# EAGLE library part SSM2167 (library analog-devices-3)
Low Voltage Microphone Preamplifier with Variable Compression and Noise Gating Source: http://www.analog.com .. SSM2167.pdf
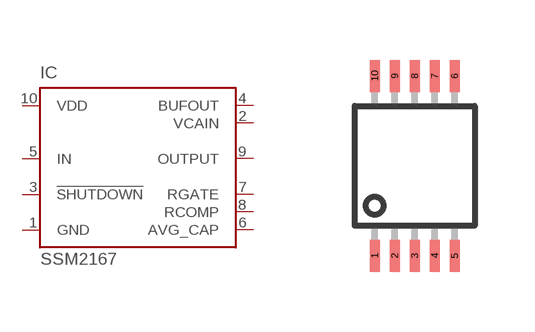
[diagram p70: symbol with the pads of SO10; footprint SO10]

Designator prefix IC

## SSM2167  [SO10]
1  GND  pwr
2  VCAIN  in
3  !SHUTDOWN  in
4  BUFOUT  out
5  IN  in
6  AVG_CAP  pas
7  RGATE  pas
8  RCOMP  pas
9  OUTPUT  out
10  VDD  pwr

## Footprint SO10 (pad centres in mm)
10-Lead Mini_SO Package (RM-10)
smd 0.25 x 0.8: 1 -1,-2.25; 2 -0.5,-2.25; 3 0,-2.25; 4 0.5,-2.25; 5 1,-2.25; 6 1,2.25; 7 0.5,2.25; 8 0,2.25; 9 -0.5,2.25; 10 -1,2.25